# Altium schematic symbol library X_14_PIN.SchLib: 1 symbol
Pins are listed as number, name and electrical type; pins without a type are passive.

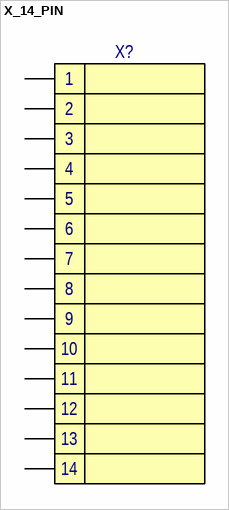
[diagram p0: symbol X_14_PIN]

## X_14_PIN
designator X?
ManufacturerPartNumber: ManufacturerPartNumber
pins: 1, 2, 3, 4, 5, 6, 7, 8, 9, 10, 11, 12, 13 SHIELD, 14